# Altium footprint library 敏儿好学.PcbLib: 26 footprints (part 2 of 2)
Each footprint in its own frame and in the unit in brackets; x right, y up, seen from the top. Pads: shape width x height; smd on the part's side, far side on the other; paste and mask are expansions set on the pad; w line width, h text height; cw(c..) or ccw(c..) is an arc to the next point about the centre after c.
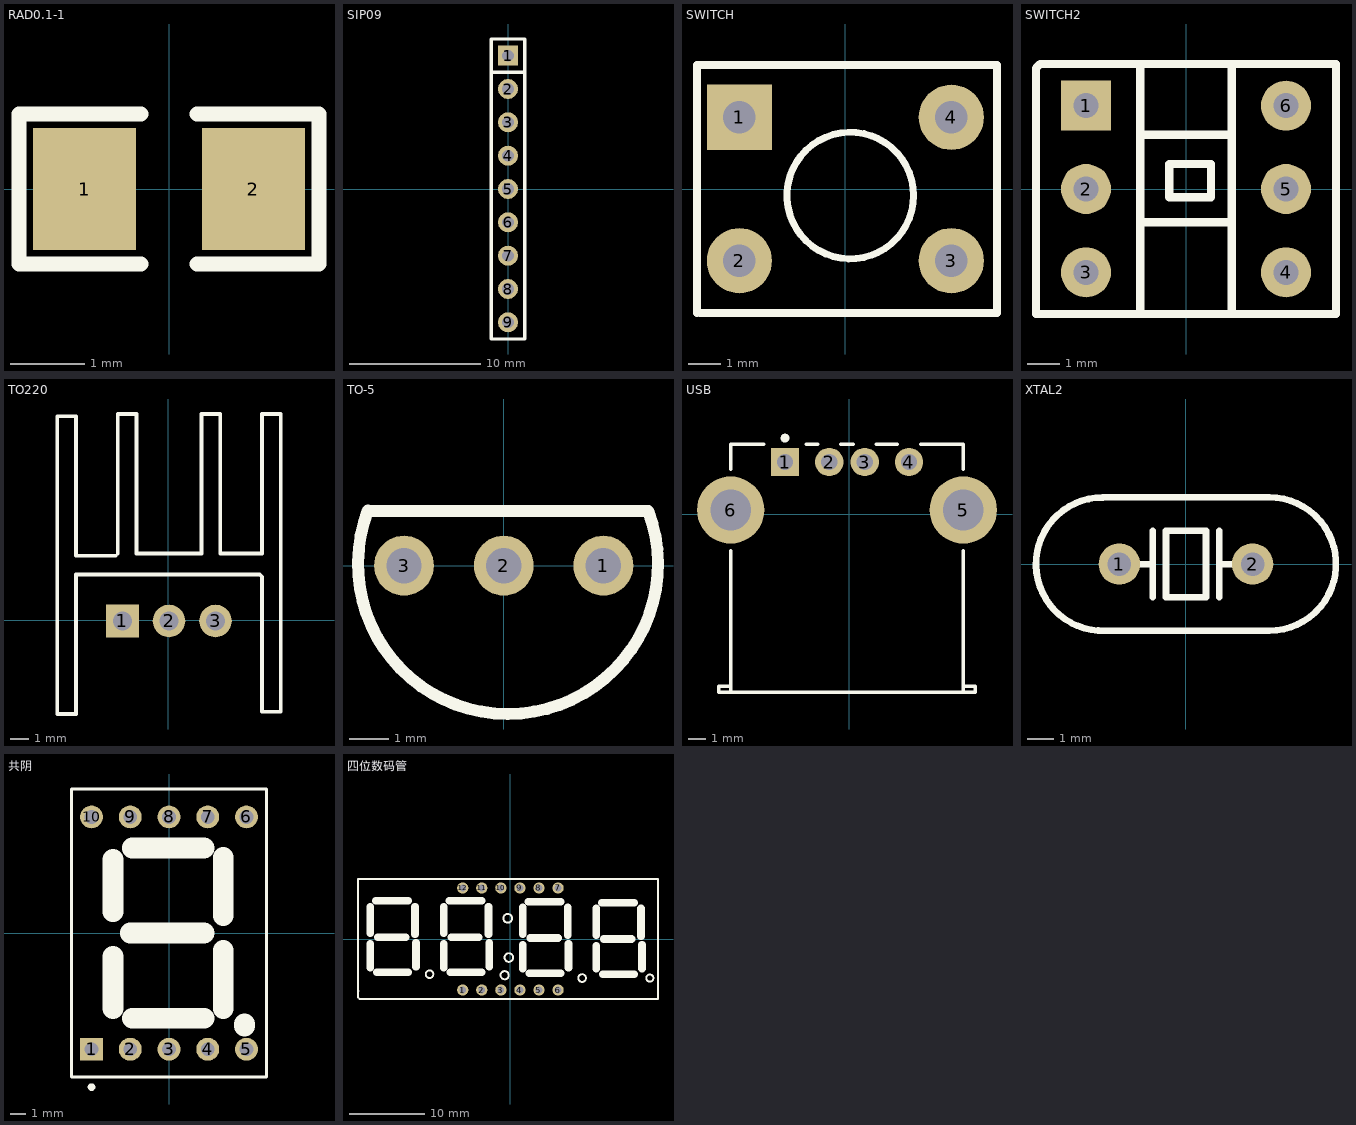
[diagram p1: the footprints below, top view; thin cyan lines are the x and y axes]

## RAD0.1-1 [mil]
height 30
pads (2):
  rect 55x65 smd: 1(-45,0) 2(45,0)
Top Overlay:
  lines w8: -15,-40 -80,-40 -80,40 -15,40 ; 15,-40 80,-40 80,40 15,40

## SIP09 [mil]
height 50
pads (9):
  rect 60x60 hole 35.43: 1(0,400)
  round 60 hole 35.43: 2(0,300) 3(0,200) 4(0,100) 5(0,0) 6(0,-100) 7(0,-200) 8(0,-300) 9(0,-400)
Top Overlay:
  lines w10: -50,350 50,350 ; -50,-450 50,-450 50,450 -50,450 -50,-450

## SWITCH [mm]
height 1.524
pads (4):
  rect 2x2 hole 1: 1(-3.25,2.2)
  round 2 hole 1: 2(-3.25,-2.2) 3(3.25,-2.2) 4(3.25,2.2)
Top Overlay:
  circle w0.212: c0.15,-0.2 r1.942
  lines w0.254: -4.55,-3.8 -4.55,3.8 4.65,3.8 4.65,-3.8 -4.45,-3.8

## SWITCH2 [mil]
height 120
pads (6):
  rect 60x60 hole 30: 1(-120,100)
  round 60 hole 30: 2(-120,0) 3(-120,-100) 4(120,-100) 5(120,0) 6(120,100)
Top Overlay:
  lines w10: -55,-40 55,-40 ; -55,65 55,65 ; -55,150 -55,-150 55,-150 ; -55,150 -25,150 25,150 55,150 ; -55,150 -175,150 -180,145 -180,-150 55,-150 ; 55,-150 55,150 ; 55,-150 180,-150 180,150 55,150 ; -20,-10 30,-10 30,30 -20,30 -20,-10

## TO220 [mil]
height 200
pads (3):
  rect 70x70 hole 40: 1(-98,-2)
  round 70 hole 40: 2(2,-2) 3(102,-2)
Top Overlay:
  lines w8: -238,98 -238,-202 ; -238,138 -238,438 ; -113,138 -198,138 -198,438 -238,438 ; -108,143 -108,443 -68,443 -68,143 2,143 72,143 72,443 112,443 112,143 202,143 202,443 242,443 242,143 242,78 ; 202,78 202,93 ; 242,103 242,-197 202,-197 202,93 ; -238,-202 -198,-202 -198,98 197,98 202,93 ; -238,-202 -238,438

## TO-5 [mil]
pads (3):
  round 60 hole 35.43: 1(100,0) 2(0,0) 3(-100,0)
Top Overlay:
  lines w12: -136.2,55.46 ccw(c4.31,1.64) 145,55 -135,55

## USB [mm]
height 2.032
pads (6):
  rect 1.6x1.6 hole 0.92: 1(-3.627,2.957)
  round 1.6 hole 0.92: 2(-1.127,2.957) 3(0.873,2.957) 4(3.373,2.957)
  round 3.8 hole 2.3: 5(6.443,0.247) 6(-6.697,0.247)
Top Overlay:
  circle w0.25: c-3.627,4.307 r0.125
  lines w0.2: -6.692,-9.713 -7.377,-9.713 -7.377,-10.033 -6.692,-10.033 ; -6.692,-2.053 -6.692,-10.033 ; -6.692,2.547 -6.692,3.967 -4.827,3.967 ; -2.427,3.967 -1.787,3.967 ; -0.467,3.967 0.213,3.967 ; 1.533,3.967 2.713,3.967 ; 4.033,3.967 6.438,3.967 6.438,2.547 ; 6.438,-9.713 7.123,-9.713 7.123,-10.033 6.438,-10.033 ; 6.438,-2.053 6.438,-10.033 ; -6.692,-10.033 6.438,-10.033

## XTAL2 [mil]
height 100
pads (2):
  round 62 hole 35.43: 1(-100,0) 2(100,0)
Top Overlay:
  lines w10: -125,-100 125,-100 ccw(c125,0.12) 125,100.25 -124.75,100.25 ; -125,100 ccw(c-125,0) -121.21,-99.93 ; -70,0 -50,0 ; -50,-50 -50,50 ; 50,-50 50,50 ; 50,0 70,0 ; -30,-50 -30,50 30,50 30,-50 -30,-50

## 共阴 [mm]
height 3.302
pads (10):
  rect 1.5x1.5 hole 0.9: 1(-5.08,-7.62)
  round 1.5 hole 0.9: 2(-2.54,-7.62) 3(0,-7.62) 4(2.54,-7.62) 5(5.08,-7.62) 6(5.08,7.62) 7(2.54,7.62) 8(0,7.62) 9(-2.54,7.62) 10(-5.08,7.62)
Top Overlay:
  circle w0.25: c-5.08,-10.1 r0.125
  lines w0.2: -6.4,-9.45 6.4,-9.45 6.4,9.45 -6.4,9.45 -6.4,-9.45
  lines w1.369: -3.683,-4.953 -3.683,-1.524 ; -3.683,1.397 -3.683,4.826 ; -2.54,0 2.286,0 ; -2.413,-5.588 2.286,-5.588 ; -2.413,5.588 -1.016,5.588 1.016,5.588 2.286,5.588 ; 3.556,-4.953 3.556,-1.143 ; 3.556,1.143 3.556,4.953 ; 4.953,-6.096 4.953,-5.969

## 四位数码管 [mm]
height 5.08
pads (12):
  round 1.499 hole 0.9: 1(-6.35,-6.794) 12(-6.35,6.794)
  round 1.5 hole 0.9: 2(-3.81,-6.794) 3(-1.27,-6.794) 4(1.27,-6.794) 5(3.81,-6.794) 6(6.35,-6.794) 7(6.35,6.794) 8(3.81,6.794) 9(1.27,6.794) 10(-1.27,6.794) 11(-3.81,6.794)
Top Overlay:
  circle w0.254: c-10.77,-4.686 r0.508
  circle w0.254: c-0.762,-4.825 r0.545
  circle w0.254: c-0.203,-2.467 r0.575
  circle w0.254: c-0.356,2.755 r0.585
  circle w0.254: c9.55,-5.2 r0.514
  circle w0.254: c18.571,-5.207 r0.479
  lines w0.254: -20.244,-6.947 -20.295,-6.998 ; -20.295,-6.998 -20.295,8.001 19.66,8.001 19.66,-8.001 -20.066,-8.001 -20.295,-7.772 -20.295,-6.998
  lines w1.016: -18.669,-3.81 -18.669,-0.635 ; -18.669,0.762 -18.669,4.318 ; -17.907,5.08 -13.589,5.08 ; -17.78,-4.445 -13.589,-4.445 ; -17.653,0.254 -13.97,0.254 ; -12.7,0.635 -12.7,4.318 ; -12.573,-3.683 -12.573,-0.508 ; -8.89,-3.81 -8.89,-0.635 ; -8.89,0.762 -8.89,4.318 ; -8.128,5.08 -3.81,5.08 ; -8.001,-4.445 -3.81,-4.445 ; -7.874,0.254 -4.191,0.254 ; -2.921,0.635 -2.921,4.318 ; -2.794,-3.683 -2.794,-0.508 ; 1.651,-3.937 1.651,-0.762 ; 1.651,0.635 1.651,4.191 ; 2.413,4.953 6.731,4.953 ; 2.54,-4.572 6.731,-4.572 ; 2.667,0.127 6.35,0.127 ; 7.62,0.508 7.62,4.191 ; 7.747,-3.81 7.747,-0.635 ; 11.43,-3.937 11.43,-0.889 ; 11.43,0.508 11.43,4.064 ; 12.192,4.826 16.51,4.826 ; 12.319,-4.699 16.51,-4.699 ; 12.446,0 16.129,0 ; 17.399,0.381 17.399,4.064 ; 17.526,-3.937 17.526,-0.762